# Altium schematic symbol library SCH - MCU - ATSAM - MICROCHIP SAMD10D13A-MU QFN24.SchLib: 1 symbol
Pins are listed as number, name and electrical type; pins without a type are passive.

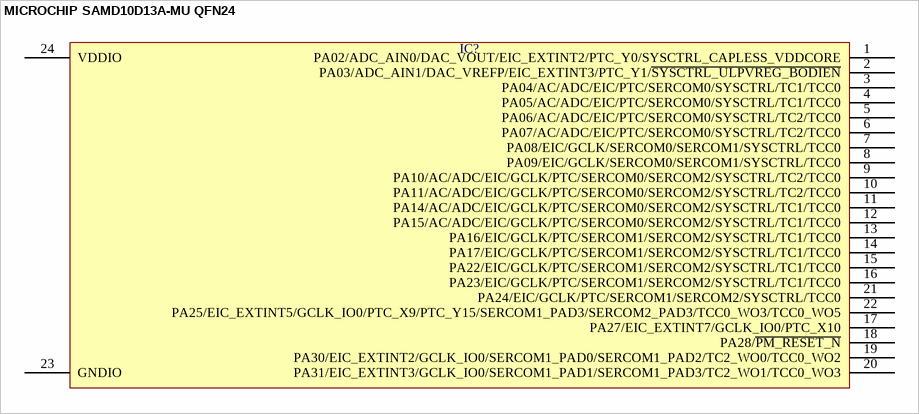
[diagram p0: symbol MICROCHIP SAMD10D13A-MU QFN24]

## MICROCHIP SAMD10D13A-MU QFN24
designator IC?  (value not drawn)
pins: 1 PA02/ADC_AIN0/DAC_VOUT/EIC_EXTINT2/PTC_Y0/SYSCTRL_CAPLESS_VDDCORE, 2 PA03/ADC_AIN1/DAC_VREFP/EIC_EXTINT3/PTC_Y1/~{SYSCTRL_ULPVREG_BODIEN}, 3 PA04/AC/ADC/EIC/PTC/SERCOM0/SYSCTRL/TC1/TCC0, 4 PA05/AC/ADC/EIC/PTC/SERCOM0/SYSCTRL/TC1/TCC0, 5 PA06/AC/ADC/EIC/PTC/SERCOM0/SYSCTRL/TC2/TCC0, 6 PA07/AC/ADC/EIC/PTC/SERCOM0/SYSCTRL/TC2/TCC0, 7 PA08/EIC/GCLK/SERCOM0/SERCOM1/SYSCTRL/TCC0, 8 PA09/EIC/GCLK/SERCOM0/SERCOM1/SYSCTRL/TCC0, 9 PA10/AC/ADC/EIC/GCLK/PTC/SERCOM0/SERCOM2/SYSCTRL/TC2/TCC0, 10 PA11/AC/ADC/EIC/GCLK/PTC/SERCOM0/SERCOM2/SYSCTRL/TC2/TCC0, 11 PA14/AC/ADC/EIC/GCLK/PTC/SERCOM0/SERCOM2/SYSCTRL/TC1/TCC0, 12 PA15/AC/ADC/EIC/GCLK/PTC/SERCOM0/SERCOM2/SYSCTRL/TC1/TCC0, 13 PA16/EIC/GCLK/PTC/SERCOM1/SERCOM2/SYSCTRL/TC1/TCC0, 14 PA17/EIC/GCLK/PTC/SERCOM1/SERCOM2/SYSCTRL/TC1/TCC0, 15 PA22/EIC/GCLK/PTC/SERCOM1/SERCOM2/SYSCTRL/TC1/TCC0, 16 PA23/EIC/GCLK/PTC/SERCOM1/SERCOM2/SYSCTRL/TC1/TCC0, 17 PA27/EIC_EXTINT7/GCLK_IO0/PTC_X10, 18 PA28/~{PM_RESET_N}, 19 PA30/EIC_EXTINT2/GCLK_IO0/SERCOM1_PAD0/SERCOM1_PAD2/TC2_WO0/TCC0_WO2, 20 PA31/EIC_EXTINT3/GCLK_IO0/SERCOM1_PAD1/SERCOM1_PAD3/TC2_WO1/TCC0_WO3, 21 PA24/EIC/GCLK/PTC/SERCOM1/SERCOM2/SYSCTRL/TCC0, 22 PA25/EIC_EXTINT5/GCLK_IO0/PTC_X9/PTC_Y15/SERCOM1_PAD3/SERCOM2_PAD3/TCC0_WO3/TCC0_WO5, 23 GNDIO, 24 VDDIO